# Altium schematic symbol library Crystal.SchLib: 21 symbols
Pins are listed as number, name and electrical type; pins without a type are passive.

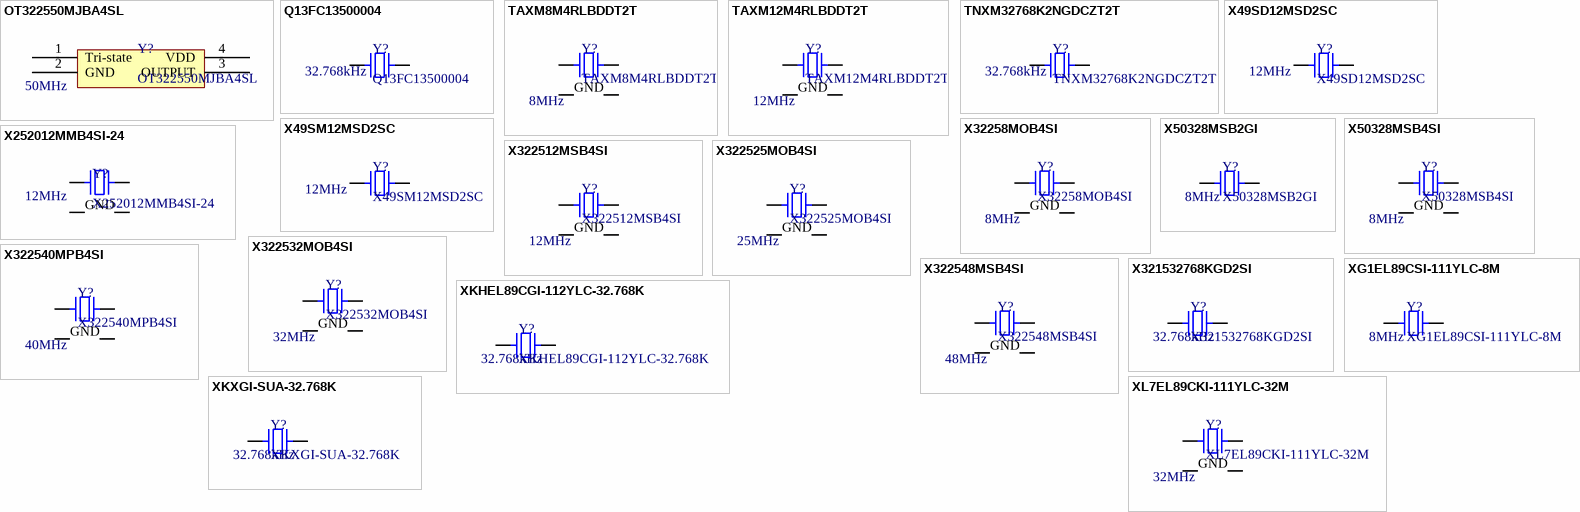
[diagram p0: symbols OT322550MJBA4SL to XL7EL89CKI-111YLC-32M]

## OT322550MJBA4SL
designator Y?  频率: 50MHz
YXC(扬兴晶振) YSO110TR 50MHZ 4P 3225 1.8V-3.3V ±10PPM -40~85℃ (±20PPM); 封装: SMD5032; 类别: 石英晶振; 子类别: 有源晶振; 输出模式: CMOS; 制造商: YXC(扬兴晶振); 常温频差: ±10ppm; 负载电容: -
footprint YXC-SMD3225-4P-S (YXC(扬兴晶振) 3225有源晶振 4Pin 推荐焊盘)
pins: 1 Tri-state, 2 GND, 3 OUTPUT, 4 VDD

## Q13FC13500004
designator Y?  频率: 32.768kHz
EPSON(爱普生) 32.768kHz ±20ppm 12.5pF; 封装: SMD3215; 类别: 石英晶振; 子类别: 无缘晶振; 制造商: EPSON(爱普生); 常温频差: ±20ppm; 负载电容: 12.5pF
footprint Q13FC13500004 (EPSON(爱普生) Q13FC13500004 推荐焊盘)
pins: 1, 2

## TAXM8M4RLBDDT2T
designator Y?  频率: 8MHz
YJX(雅晶鑫) 全国产 频率：8MHz 负载：20pF 常温频差：±10ppm 工作温度：-30℃~+85℃; 封装: SMD3225; 类别: 石英晶振; 子类别: 无缘晶振; 常温频差: ±10ppm; 负载电容: 20pF; 制造商: YJX(雅晶鑫)
footprint YJX-SMD3225-4P (YJX(雅晶鑫) 3225晶振 4Pin 推荐焊盘)
pins: 1, 2 GND, 3, 4 GND

## TAXM12M4RLBDDT2T
designator Y?  频率: 12MHz
YJX(雅晶鑫) 全国产 频率：12MHz 负载：20pF 常温频差：±10ppm 工作温度：-30℃~+85℃,型号升级变更为：YC12MLBCD2XT; 封装: SMD3225; 类别: 石英晶振; 子类别: 无缘晶振; 常温频差: ±10ppm; 负载电容: 20pF; 制造商: YJX(雅晶鑫)
footprint YJX-SMD3225-4P (YJX(雅晶鑫) 3225晶振 4Pin 推荐焊盘)
pins: 1, 2 GND, 3, 4 GND

## TNXM32768K2NGDCZT2T
designator Y?  频率: 32.768kHz
YJX(雅晶鑫) 全国产  KHz贴片 频率：32.768kHz 负载：12.5pF 常温频差：±20ppm 工作温度：-40℃~+85℃; 封装: SMD3215; 类别: 石英晶振; 子类别: 无缘晶振; 常温频差: ±20ppm; 负载电容: 12.5pF; 制造商: YJX(雅晶鑫)
footprint YJX-SMD3215-2P (YJX(雅晶鑫) 3215晶振 2Pin 推荐焊盘)
pins: 1, 2

## X49SD12MSD2SC
designator Y?  频率: 12MHz
YXC(扬兴晶振)  HC-49US 12MHZ 2P 49S 20PF ±20PPM -20~70℃（±30PPM）; 封装: HC-49S; 类别: 石英晶振; 子类别: 无缘晶振; 制造商: YXC(扬兴晶振); 常温频差: ±20ppm; 负载电容: 20pF
footprint YXC-HC-49S
pins: 1, 2

## X49SM12MSD2SC
designator Y?  频率: 12MHz
YXC(扬兴晶振) HC-49SMD 12MHZ 2P 49SMD 20PF ±20PPM -20~70℃（±30PPM）; 封装: HC-49S-SMD; 类别: 石英晶振; 子类别: 无缘晶振; 制造商: YXC(扬兴晶振); 常温频差: ±20ppm; 负载电容: 20pF
footprint YXC-HC-49S-SMD
pins: 1, 2

## X32258MOB4SI
designator Y?  频率: 8MHz
YXC(扬兴晶振) YSX321SL 8MHZ 4P 3225 12PF ±10PPM -40~85℃ (±20PPM); 封装: SMD3225; 类别: 石英晶振; 子类别: 无缘晶振; 制造商: YXC(扬兴晶振); 常温频差: ±10ppm; 负载电容: 12pF
footprint YXC-SMD3225-4P (YXC(扬兴晶振) 3225晶振 4Pin 推荐焊盘)
pins: 1, 2 GND, 3, 4 GND

## X50328MSB2GI
designator Y?  频率: 8MHz
YXC(扬兴晶振) YSX530GA 8MHZ 2P 5032 20PF ±10PPM -40~85℃ (±20PPM); 封装: SMD5032; 类别: 石英晶振; 子类别: 无缘晶振; 制造商: YXC(扬兴晶振); 常温频差: ±10ppm; 负载电容: 20pF
footprint YXC-SMD5032-2P (YXC(扬兴晶振) SMD5032 推荐焊盘)
pins: 1, 2

## X50328MSB4SI
designator Y?  频率: 8MHz
YXC(扬兴晶振) YSX531SL 8MHZ 4P 5032 20PF ±10PPM -40~85℃ (±20PPM); 封装: SMD5032; 类别: 石英晶振; 子类别: 无缘晶振; 制造商: YXC(扬兴晶振); 常温频差: ±10ppm; 负载电容: 20pF
footprint YXC-SMD3225-4P (YXC(扬兴晶振) 3225晶振 4Pin 推荐焊盘)
pins: 1, 2 GND, 3, 4 GND

## X252012MMB4SI-24
designator Y?  频率: 12MHz
YXC(扬兴晶振)  YSX221SL 12MHZ 4P 2520 10PF ±10PPM -40~85℃ (±20PPM); 封装: HC-49S-SMD; 类别: 石英晶振; 子类别: 无缘晶振; 制造商: YXC(扬兴晶振); 常温频差: ±10ppm; 负载电容: 10pF
footprint YXC-SMD2520-4P (YXC(扬兴晶振) 3225晶振 4Pin 推荐焊盘)
pins: 1, 2 GND, 3, 4 GND

## X322512MSB4SI
designator Y?  频率: 12MHz
YXC(扬兴晶振) YSX321SL 12MHZ 4P 3225 20PF ±10PPM -40~85℃ (±20PPM); 封装: SMD3225; 类别: 石英晶振; 子类别: 无缘晶振; 制造商: YXC(扬兴晶振); 常温频差: ±10ppm; 负载电容: 20pF
footprint YXC-SMD3225-4P (YXC(扬兴晶振) 3225晶振 4Pin 推荐焊盘)
pins: 1, 2 GND, 3, 4 GND

## X322525MOB4SI
designator Y?  频率: 25MHz
YXC(扬兴晶振) YSX321SL 25MHZ 4P 3225 12PF ±10PPM -40~85℃ (±20PPM); 封装: SMD3225; 类别: 石英晶振; 子类别: 无缘晶振; 制造商: YXC(扬兴晶振); 常温频差: ±10ppm; 负载电容: 12pF
footprint YXC-SMD3225-4P (YXC(扬兴晶振) 3225晶振 4Pin 推荐焊盘)
pins: 1, 2 GND, 3, 4 GND

## X322532MOB4SI
designator Y?  频率: 32MHz
YXC(扬兴晶振) YSX321SL 32MHZ 4P 3225 12PF ±10PPM -40~85℃ (±20PPM); 封装: SMD5032; 类别: 石英晶振; 子类别: 无缘晶振; 制造商: YXC(扬兴晶振); 常温频差: ±10ppm; 负载电容: 12pF
footprint YXC-SMD3225-4P (YXC(扬兴晶振) 3225晶振 4Pin 推荐焊盘)
pins: 1, 2 GND, 3, 4 GND

## X322540MPB4SI
designator Y?  频率: 40MHz
YXC(扬兴晶振) YSX321SL 40MHZ 4P 3225 15PF ±10PPM -40~85℃ (±20PPM); 封装: SMD3225; 类别: 石英晶振; 子类别: 无缘晶振; 制造商: YXC(扬兴晶振); 常温频差: ±10ppm; 负载电容: 15pF
footprint YXC-SMD3225-4P (YXC(扬兴晶振) 3225晶振 4Pin 推荐焊盘)
pins: 1, 2 GND, 3, 4 GND

## X322548MSB4SI
designator Y?  频率: 48MHz
YXC(扬兴晶振) YSX321SL 48MHZ 4P 3225 20PF ±10PPM -40~85℃ (±20PPM); 封装: SMD3225; 类别: 石英晶振; 子类别: 无缘晶振; 制造商: YXC(扬兴晶振); 常温频差: ±10ppm; 负载电容: 20pF
footprint YXC-SMD3225-4P (YXC(扬兴晶振) 3225晶振 4Pin 推荐焊盘)
pins: 1, 2 GND, 3, 4 GND

## X321532768KGD2SI
designator Y?  频率: 32.768kHz
YXC(扬兴晶振) YST310S 32.768KHZ 2P 3215 12.5PF ±20PPM -40~85℃; 封装: SMD3215; 类别: 石英晶振; 子类别: 无缘晶振; 制造商: YXC(扬兴晶振); 常温频差: ±20ppm; 负载电容: 12.5pF
footprint YXC-SMD3215-2P (YXC(扬兴晶振) 3215晶振 2Pin 推荐焊盘)
pins: 1, 2

## XG1EL89CSI-111YLC-8M
designator Y?  频率: 8MHz
YXC(扬兴晶振) YSX530GA 8MHZ 2P 5032 20PF ±10PPM -40~85℃ (±30PPM); 封装: SMD5032; 类别: 石英晶振; 子类别: 无缘晶振; 制造商: YXC(扬兴晶振); 常温频差: ±10ppm; 负载电容: 20pF
footprint YXC-SMD5032-2P (YXC(扬兴晶振) SMD5032 推荐焊盘)
pins: 1, 2

## XKHEL89CGI-112YLC-32.768K
designator Y?  频率: 32.768kHz
YXC(扬兴晶振) YSX2012SK 32.768KHZ 2P 2012 12.5PF ±20PPM -40~85℃; 封装: SMD2012-2P; 类别: 石英晶振; 子类别: 无缘晶振; 制造商: YXC(扬兴晶振); 常温频差: ±20ppm; 负载电容: 12.5pF
footprint YXC-SMD2012-2P (YXC(扬兴晶振) SMD2012 推荐焊盘)
pins: 1, 2

## XKXGI-SUA-32.768K
designator Y?  频率: 32.768kHz
YXC(扬兴晶振) YST310S 32.768KHZ 2P 3215 12.5PF ±20PPM -40~85℃; 封装: SMD3215-2P; 类别: 石英晶振; 子类别: 无缘晶振; 制造商: YXC(扬兴晶振); 常温频差: ±20ppm; 负载电容: 12.5pF
footprint YXC-SMD3215-2P (YXC(扬兴晶振) 3215晶振 2Pin 推荐焊盘)
pins: 1, 2

## XL7EL89CKI-111YLC-32M
designator Y?  频率: 32MHz
YXC(扬兴晶振) YSX211SL 32MHZ 4P 2016 8PF ±20PPM -40~85℃ (±20PPM); 封装: SMD2016-4P; 类别: 石英晶振; 子类别: 无缘晶振; 制造商: YXC(扬兴晶振); 常温频差: ±20ppm; 负载电容: 8pF
footprint YXC-SMD2016-4P (YXC(扬兴晶振) 2016晶振 4Pin 推荐焊盘)
pins: 1, 2 GND, 3, 4 GND